# EAGLE library part STLINK_V3_HAT (library stlinkv3)
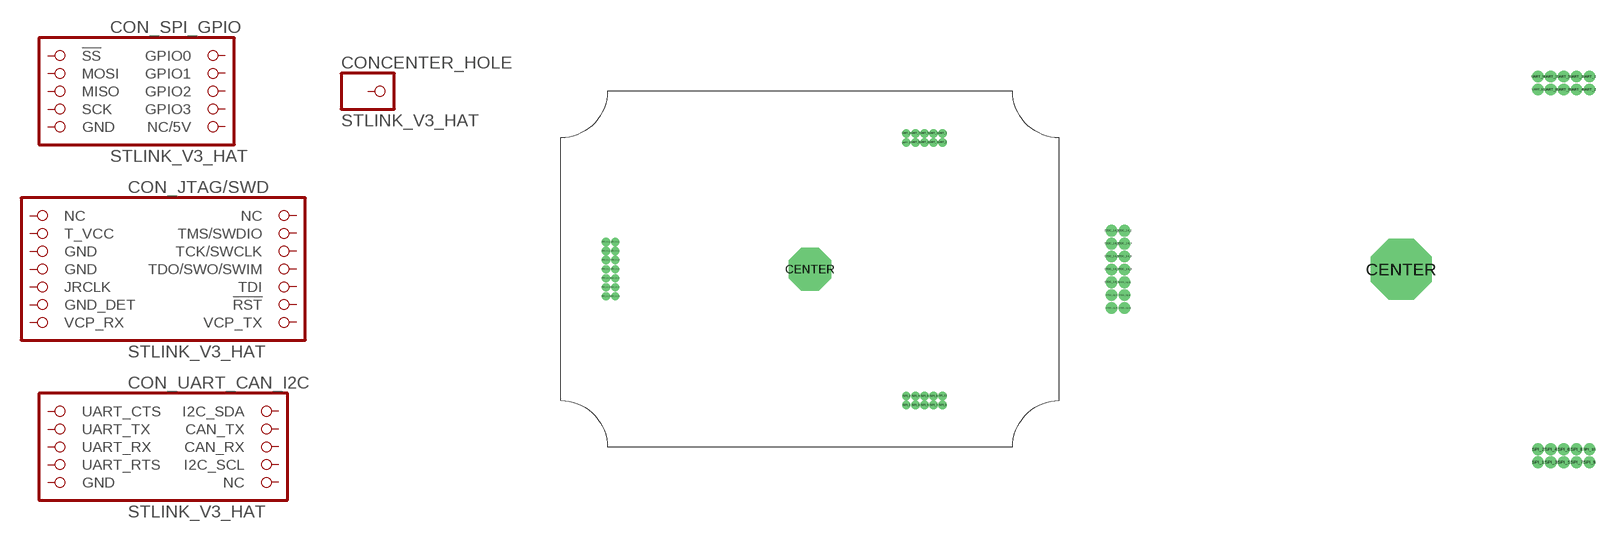
[diagram p0: symbol with the pads of STLINKV3_HAT; footprints STLINKV3_HAT, STLINKV3_HAT_NO_CONTOUR]

Designator prefix CON; gates _SPI_GPIO=SPI _JTAG/SWD=STDC_14(JTAG/SWD) _UART_CAN_I2C=UART CENTER_HOLE=PINHD1

## STLINK_V3_HATW_CONTOUR  [STLINKV3_HAT]
CENTER  CENTER_HOLE:1  pas
SPI_1  _SPI_GPIO:!SS  out
SPI_2  _SPI_GPIO:GPIO0
SPI_3  _SPI_GPIO:MOSI  out
SPI_4  _SPI_GPIO:GPIO1
SPI_5  _SPI_GPIO:MISO  in
SPI_6  _SPI_GPIO:GPIO2
SPI_7  _SPI_GPIO:SCK  out
SPI_8  _SPI_GPIO:GPIO3
SPI_9  _SPI_GPIO:GND  pas
SPI_10  _SPI_GPIO:NC/5V  sup
STDC_14_1  _JTAG/SWD:NC  nc
STDC_14_2  _JTAG/SWD:NC  nc
STDC_14_3  _JTAG/SWD:T_VCC  in
STDC_14_4  _JTAG/SWD:TMS/SWDIO
STDC_14_5  _JTAG/SWD:GND  pas
STDC_14_6  _JTAG/SWD:TCK/SWCLK  out
STDC_14_7  _JTAG/SWD:GND  pas
STDC_14_8  _JTAG/SWD:TDO/SWO/SWIM
STDC_14_9  _JTAG/SWD:JRCLK  in
STDC_14_10  _JTAG/SWD:TDI  out
STDC_14_11  _JTAG/SWD:GND_DET  in
STDC_14_12  _JTAG/SWD:!RST  out
STDC_14_13  _JTAG/SWD:VCP_RX  in
STDC_14_14  _JTAG/SWD:VCP_TX  out
UART_1  _UART_CAN_I2C:UART_CTS  in
UART_2  _UART_CAN_I2C:I2C_SDA  oc
UART_3  _UART_CAN_I2C:UART_TX  out
UART_4  _UART_CAN_I2C:CAN_TX  out
UART_5  _UART_CAN_I2C:UART_RX  in
UART_6  _UART_CAN_I2C:CAN_RX  in
UART_7  _UART_CAN_I2C:UART_RTS  out
UART_8  _UART_CAN_I2C:I2C_SCL  oc
UART_9  _UART_CAN_I2C:GND  pas
UART_10  _UART_CAN_I2C:NC  nc

## STLINK_V3_HATNO_CONTOUR  [STLINKV3_HAT_NO_CONTOUR]
Pads as for STLINKV3_HAT

## Footprint STLINKV3_HAT (pad centres in mm)
Footprint for creating hat like board to the StLink V3 with through hole 1.27 female headers. TME order codes: 2pcs DS1065-03-2X5S8BV (2x5) 1pcs DS1065-03-2X7S8BV (2x7)
drill 3 pad 6 octagon: CENTER 0,0
drill 0.65: SPI_1 13.51,-19.035; SPI_2 13.51,-17.765; SPI_3 14.78,-19.035; SPI_4 14.78,-17.765; SPI_5 16.05,-19.035; SPI_6 16.05,-17.765; SPI_7 17.32,-19.035; SPI_8 17.32,-17.765; SPI_9 18.59,-19.035; SPI_10 18.59,-17.765; STDC_14_1 -28.585,3.81; STDC_14_2 -27.315,3.81; STDC_14_3 -28.585,2.54; STDC_14_4 -27.315,2.54; STDC_14_5 -28.585,1.27; STDC_14_6 -27.315,1.27; STDC_14_7 -28.585,0; STDC_14_8 -27.315,0; STDC_14_9 -28.585,-1.27; STDC_14_10 -27.315,-1.27; STDC_14_11 -28.585,-2.54; STDC_14_12 -27.315,-2.54; STDC_14_13 -28.585,-3.81; STDC_14_14 -27.315,-3.81; UART_1 18.59,19.035; UART_2 18.59,17.765; UART_3 17.32,19.035; UART_4 17.32,17.765; UART_5 16.05,19.035; UART_6 16.05,17.765; UART_7 14.78,19.035; UART_8 14.78,17.765; UART_9 13.51,19.035; UART_10 13.51,17.765

## Footprint STLINKV3_HAT_NO_CONTOUR (pad centres in mm)
Footprint for creating hat like board to the StLink V3 with through hole 1.27 female headers. TME order codes: 2pcs DS1065-03-2X5S8BV (2x5) 1pcs DS1065-03-2X7S8BV (2x7)
drill 3 pad 6 octagon: CENTER 0,0
drill 0.65: SPI_1 13.51,-19.035; SPI_2 13.51,-17.765; SPI_3 14.78,-19.035; SPI_4 14.78,-17.765; SPI_5 16.05,-19.035; SPI_6 16.05,-17.765; SPI_7 17.32,-19.035; SPI_8 17.32,-17.765; SPI_9 18.59,-19.035; SPI_10 18.59,-17.765; STDC_14_1 -28.585,3.81; STDC_14_2 -27.315,3.81; STDC_14_3 -28.585,2.54; STDC_14_4 -27.315,2.54; STDC_14_5 -28.585,1.27; STDC_14_6 -27.315,1.27; STDC_14_7 -28.585,0; STDC_14_8 -27.315,0; STDC_14_9 -28.585,-1.27; STDC_14_10 -27.315,-1.27; STDC_14_11 -28.585,-2.54; STDC_14_12 -27.315,-2.54; STDC_14_13 -28.585,-3.81; STDC_14_14 -27.315,-3.81; UART_1 18.59,19.035; UART_2 18.59,17.765; UART_3 17.32,19.035; UART_4 17.32,17.765; UART_5 16.05,19.035; UART_6 16.05,17.765; UART_7 14.78,19.035; UART_8 14.78,17.765; UART_9 13.51,19.035; UART_10 13.51,17.765